# Altium schematic symbol library Components.SchLib: 11 symbols
Pins are listed as number, name and electrical type; pins without a type are passive.

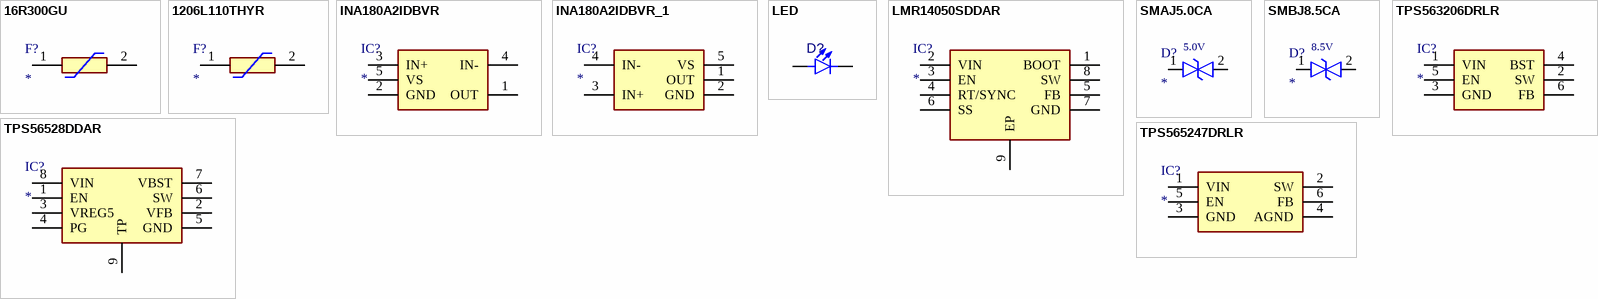
[diagram p0: symbols 16R300GU to TPS565247DRLR]

## 16R300GU
designator F?
Fuse; Manufacturer_Name: LITTELFUSE; Manufacturer_Part_Number: 16R300GU; Datasheet Link: https://componentsearchengine.com/Datasheets/2/16R300GU.pdf; Height: 11mm; Mouser Part Number: 576-16R300GU; Mouser Price/Stock: https://www.mouser.co.uk/ProductDetail/Littelfuse/16R300GU?qs=ZSIFh4sPSRouCQaFuDECOQ%3D%3D; Arrow Part Number: 16R300GU; Arrow Price/Stock: https://www.arrow.com/en/products/16r300gu/littelfuse?region=europe
footprint Polyfuse
pins: 1, 2

## 1206L110THYR
designator F?
Resettable Fuse; Manufacturer_Name: LITTELFUSE; Manufacturer_Part_Number: 1206L110THYR; Datasheet Link: https://www.littelfuse.com/~/media/electronics/datasheets/resettable_ptcs/littelfuse_ptc_1206l_datasheet.pdf.pdf; Height: 0.6mm; Mouser Part Number: 576-1206L110THYR; Mouser Price/Stock: https://www.mouser.co.uk/ProductDetail/Littelfuse/1206L110THYR?qs=CPcc0c%2Fon9HuH5Zb2mgbPg%3D%3D; Arrow Part Number: 1206L110THYR; Arrow Price/Stock: https://www.arrow.com/en/products/1206l110thyr/littelfuse?utm_currency=USD&region=nac
footprint FUSC3216X60N
pins: 1, 2

## INA180A2IDBVR
designator IC?
Integrated Circuit; Manufacturer_Name: Texas Instruments; Manufacturer_Part_Number: INA180A2IDBVR; Datasheet Link: http://www.ti.com/lit/ds/symlink/ina180.pdf; Height: 1.45mm; Mouser Part Number: 595-INA180A2IDBVR; Mouser Price/Stock: https://www.mouser.co.uk/ProductDetail/Texas-Instruments/INA180A2IDBVR?qs=5aG0NVq1C4wYcJfa99BoHg%3D%3D; Arrow Part Number: INA180A2IDBVR; Arrow Price/Stock: https://www.arrow.com/en/products/ina180a2idbvr/texas-instruments?utm_currency=USD&region=nac; LCSC Part Number: C192764
footprint SOT23-5
pins: 1 OUT, 2 GND, 3 IN+, 4 IN-, 5 VS

## INA180A2IDBVR_1
designator IC?
Integrated Circuit; Manufacturer_Name: Texas Instruments; Manufacturer_Part_Number: INA180A2IDBVR; Datasheet Link: http://www.ti.com/lit/ds/symlink/ina180.pdf; Height: 1.45mm; Mouser Part Number: 595-INA180A2IDBVR; Mouser Price/Stock: https://www.mouser.co.uk/ProductDetail/Texas-Instruments/INA180A2IDBVR?qs=5aG0NVq1C4wYcJfa99BoHg%3D%3D; Arrow Part Number: INA180A2IDBVR; Arrow Price/Stock: https://www.arrow.com/en/products/ina180a2idbvr/texas-instruments?utm_currency=USD&region=nac; LCSC Part Number: C192764
footprint SOT23-5
pins: 1 OUT, 2 GND, 3 IN+, 4 IN-, 5 VS

## LED
designator D?
Light Emitting Diode; Vf: 2.3V; LCSC Part Number: C965800
footprint LED0603 (LEDC1608X80N)
pins: 1 K, 2 A

## LMR14050SDDAR
designator IC?
Integrated Circuit; Manufacturer_Name: Texas Instruments; Manufacturer_Part_Number: LMR14050SDDAR; Description: 40V; Datasheet Link: http://www.ti.com/lit/gpn/lmr14050; Height: 1.7mm; Mouser Part Number: 595-LMR14050SDDAR; Mouser Price/Stock: https://www.mouser.co.uk/ProductDetail/Texas-Instruments/LMR14050SDDAR?qs=G5PZsBocSXuzvyUQdQ5q2Q%3D%3D; Arrow Part Number: LMR14050SDDAR; Arrow Price/Stock: https://www.arrow.com/en/products/lmr14050sddar/texas-instruments?utm_currency=USD&region=nac
footprint SOIC-8-TP
pins: 1 BOOT, 2 VIN, 3 EN, 4 RT/SYNC, 5 FB, 6 SS, 7 GND, 8 SW, 9 EP

## SMAJ5.0CA
designator D?
43.5A 400W 9.2V 6.4V Bidirectional 5V DO-214AC(SMA) TVS Diodes ROHS; Manufacturer_Name: GOODWORK; Manufacturer_Part_Number: SMAJ5.0CA; Vrwm: 5.0V; Mouser Part Number: *; LCSC Part Number: C908809; Breakdown voltage: 6.4V; Clamping voltage: 9.2V
footprint SMA_BI (Molded Diode, 2-Leads, Body 4,33x2,56mm, IPC Medium Density)
pins: 1, 2

## SMBJ8.5CA
designator D?
41.8A 600W 14.5V 9.44V Bidirectional 8.6V DO-214AA(SMB) TVS Diodes ROHS; Manufacturer_Name: GOODWORK; Manufacturer_Part_Number: SMBJ8.5CA; Vrwm: 8.5V; Breakdown voltage: 10V; Clamping voltage: 14.4V; Mouser Part Number: *; LCSC Part Number: C33127061
footprint SMB_BI
pins: 1, 2

## TPS56528DDAR
designator IC?
Integrated Circuit; Manufacturer_Name: Texas Instruments; Manufacturer_Part_Number: TPS56528DDAR; Datasheet Link: http://www.ti.com/lit/gpn/tps56528; Height: 1.7mm; Mouser Part Number: 595-TPS56528DDAR; Mouser Price/Stock: https://www.mouser.co.uk/ProductDetail/Texas-Instruments/TPS56528DDAR?qs=n38Wlrh4b4Y9vR4Im84wEA%3D%3D; Arrow Part Number: TPS56528DDAR; Arrow Price/Stock: https://www.arrow.com/en/products/tps56528ddar/texas-instruments?region=nac; LCSC Part Number: C138716
footprint SOIC-8-TP
pins: 1 EN, 2 VFB, 3 VREG5, 4 PG, 5 GND, 6 SW, 7 VBST, 8 VIN, 9 TP

## TPS563206DRLR
designator IC?
Integrated Circuit; Manufacturer_Name: Texas Instruments; Manufacturer_Part_Number: TPS563206DRLR; Datasheet Link: https://www.ti.com/lit/ds/symlink/tps563206.pdf?ts=1712162145943&ref_url=https%253A%252F%252Fro.mouser.com%252F; Height: 0.6mm; Mouser Part Number: 595-TPS563206DRLR; Mouser Price/Stock: https://www.mouser.co.uk/ProductDetail/Texas-Instruments/TPS563206DRLR?qs=dbcCsuKDzFWkNlK%252BXuvszw%3D%3D; Arrow Part Number: TPS563206DRLR; Arrow Price/Stock: https://www.arrow.com/en/products/tps563206drlr/texas-instruments?utm_currency=USD&region=nac
footprint SOTFL50P160X60-6N
pins: 1 VIN, 2 SW, 3 GND, 4 BST, 5 EN, 6 FB

## TPS565247DRLR
designator IC?
Integrated Circuit; Manufacturer_Name: Texas Instruments; Manufacturer_Part_Number: TPS565247DRLR; Datasheet Link: https://www.ti.com/lit/ds/symlink/tps565242.pdf; Height: 0.6mm; Mouser Part Number: 595-TPS565247DRLR; Mouser Price/Stock: https://www.mouser.co.uk/ProductDetail/Texas-Instruments/TPS565247DRLR?qs=tlsG%2FOw5FFiQ2zIpygQzLw%3D%3D; Arrow Part Number: TPS565247DRLR; Arrow Price/Stock: https://www.arrow.com/en/products/tps565247drlr/texas-instruments?utm_currency=USD&region=nac
footprint SOTFL50P160X60-6N
pins: 1 VIN, 2 SW, 3 GND, 4 AGND, 5 EN, 6 FB